# Altium footprint library dim100.PcbLib: 1 footprints
Each footprint in its own frame and in the unit in brackets; x right, y up, seen from the top. Pads: shape width x height; smd on the part's side, far side on the other; paste and mask are expansions set on the pad; w line width, h text height; cw(c..) or ccw(c..) is an arc to the next point about the centre after c.
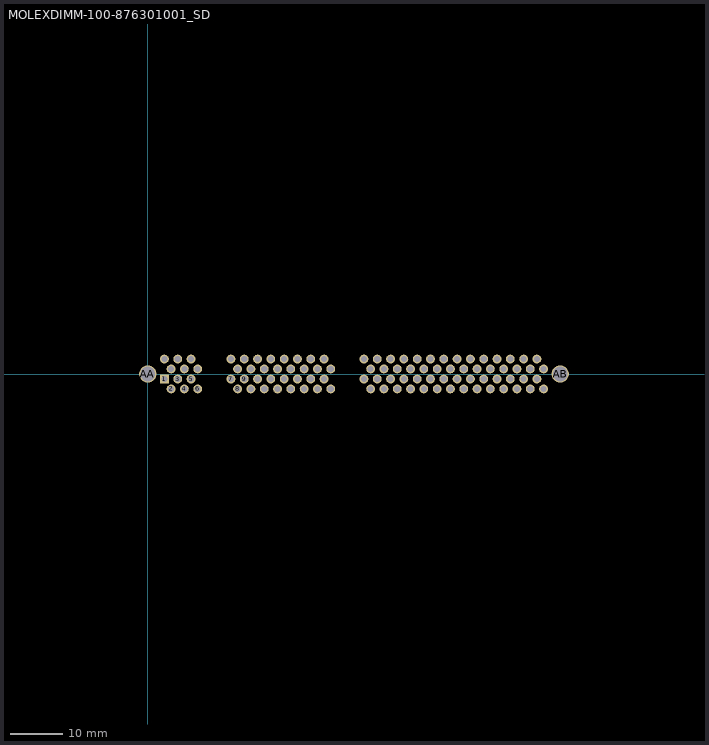
[diagram p0: the footprint, top view; thin cyan lines are the x and y axes]

## MOLEXDIMM-100-876301001_SD [mil]
pads (102):
  rect 66x66 hole 46 mask+3: 1(125,-37.6)
  round 66 hole 46 mask+3: 2(175,-112.6) 3(225,-37.6) 4(275,-112.6) 5(325,-37.6) 6(375,-112.6) 7(625,-37.6) 8(675,-112.6) 9(725,-37.6) 10(775,-112.6) 11(825,-37.6) 12(875,-112.6) 13(925,-37.6) 14(975,-112.6) 15(1025,-37.6) 16(1075,-112.6) 17(1125,-37.6) 18(1175,-112.6) 19(1225,-37.6) 20(1275,-112.6) 21(1325,-37.6) 22(1375,-112.6) 23(1625,-37.6) 24(1675,-112.6) 25(1725,-37.6) 26(1775,-112.6) 27(1825,-37.6) 28(1875,-112.6) 29(1925,-37.6) 30(1975,-112.6) 31(2025,-37.6) 32(2075,-112.6) 33(2125,-37.6) 34(2175,-112.6) 35(2225,-37.6) 36(2275,-112.6) 37(2325,-37.6) 38(2375,-112.6) 39(2425,-37.6) 40(2475,-112.6) 41(2525,-37.6) 42(2575,-112.6) 43(2625,-37.6) 44(2675,-112.6) 45(2725,-37.6) 46(2775,-112.6) 47(2825,-37.6) 48(2875,-112.6) 49(2925,-37.6) 50(2975,-112.6) 51(125,112.6) 52(175,37.6) 53(225,112.6) 54(275,37.6) 55(325,112.6) 56(375,37.6) 57(625,112.6) 58(675,37.6) 59(725,112.6) 60(775,37.6) 61(825,112.6) 62(875,37.6) 63(925,112.6) 64(975,37.6) 65(1025,112.6) 66(1075,37.6) 67(1125,112.6) 68(1175,37.6) 69(1225,112.6) 70(1275,37.6) 71(1325,112.6) 72(1375,37.6) 73(1625,112.6) 74(1675,37.6) 75(1725,112.6) 76(1775,37.6) 77(1825,112.6) 78(1875,37.6) 79(1925,112.6) 80(1975,37.6) 81(2025,112.6) 82(2075,37.6) 83(2125,112.6) 84(2175,37.6) 85(2225,112.6) 86(2275,37.6) 87(2325,112.6) 88(2375,37.6) 89(2425,112.6) 90(2475,37.6) 91(2525,112.6) 92(2575,37.6) 93(2625,112.6) 94(2675,37.6) 95(2725,112.6) 96(2775,37.6) 97(2825,112.6) 98(2875,37.6) 99(2925,112.6) 100(2975,37.6)
  round 130 hole 110 mask+3: AA(0,0) AB(3100,0)
Drill Drawing:
  lines w1: -512.01,-78.54 -512.01,78.54 ; -512.01,-78.54 -841.73,-78.54 -841.73,78.54 -512.01,78.54 ; -512.01,-78.54 -382.28,-78.54 -382.28,-147 3482.28,-147 3482.28,-78.54 3612.01,-78.54 ; -512.01,-78.54 -512.01,78.54 ; -512.01,78.54 -382.28,78.54 -382.28,147 3482.28,147 3482.28,78.54 3612.01,78.54 ; 3612.01,-78.54 3941.73,-78.54 3941.73,78.54 3612.01,78.54 ; 3612.01,-78.54 3612.01,78.54 ; 3612.01,-78.54 3612.01,78.54
  lines w6: -512.01,-78.54 -382.28,-78.54 -382.28,-147 3482.28,-147 3482.28,-78.54 3612.01,-78.54 3612.01,78.54 3482.28,78.54 3482.28,147 -382.28,147 -382.28,78.54 -512.01,78.54 -512.01,-78.54
  text "P1" at 0,-250 h30